# EAGLE library part 691411510010 (library WR-TBL Spring Clamp)
WR-TBL Serie 4115 - 5.08 mm Screwless Horizontal Entry KIND PROPERTIES Pitch 5.08 mm MATERIAL PROPERTIES Insulator Material PA66 Insulator Flammability Rating UL94 V-0 Contact Material INOX Steel Contact Type Stamped Wire Guard Material Copper Alloy GENERAL INFORMATION Operating Temperature -30 up to +120 °C Compliance ROHS & Reach ELECTRICAL PROPERTIES IR UL 10 A IR VDE 10 A Working Voltage [UL] 300 V (AC) Working Voltage [VDE] 250 V (AC) Withstanding Voltage [UL] 1600 V (AC) Withstanding Voltage [VDE] 2000 V (AC) Contact Resistance 20 mΩ Mechanical Properties Wire Strip Length 10 Wire Properties Solid Wire Section (AWG) 16 to 30 (AWG) Solid Wire Section (Metric) 1.31 to 0.0509 (mm²) Stranded Wire Section (AWG) 16 to 30 (AWG) Stranded Wire Section (Metric) 1.31 to 0.0509 (mm²) CERTIFICATION UL Approval E150931 VDE Approval 40021396 Packaging Properties Packaging Box <https://www.we-online.com/catalog/media/o32955v209%20Family_Con_TBL_Screwless_508_6914115100xx_pf2.jpg> Details see: https://www.we-online.com/catalog/en/TBL_5_08_4115_SCREWLESS_HORIZONTAL_ENTRY_6914115100xx/ Updated by Ella Wu 2019-12-31 2019(C) Wurth Elektronik
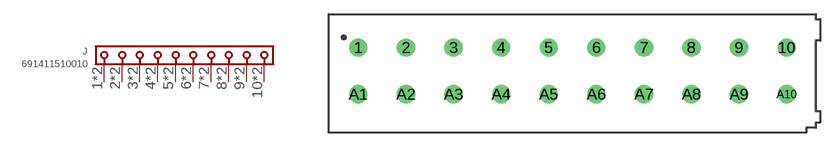
[diagram p77: symbol with the pads of 691411510010; footprint 691411510010]

Designator prefix J

## 691411510010 (DATASHEET-URL: https://www.we-online.com/redexpert/spec/691411510010?ae; IR-UL: 10A; IR-VDE: 10A; MOUNT: THT; PART-NUMBER: 691411510010; PINS: 10; PITCH: 5.08mm; TYPE: Horizontal; VALUE: 691411510010; WIRE: 16 to 30 (AWG) 1.31 to 0.0509 (mm²); WORKING-VOLTAGE-UL: 300V (AC); WORKING-VOLTAGE-VDE: 250V (AC))  [691411510010]
1  1  pas
2  2  pas
3  3  pas
4  4  pas
5  5  pas
6  6  pas
7  7  pas
8  8  pas
9  9  pas
10  10  pas
A1  1  pas
A2  2  pas
A3  3  pas
A4  4  pas
A5  5  pas
A6  6  pas
A7  7  pas
A8  8  pas
A9  9  pas
A10  10  pas

## Footprint 691411510010 (pad centres in mm)
WR-TBL Serie 4115 - 5.08 mm Screwless Horizontal Entry Max Height = 13.9mm , Pitch 5.08mm , 10pins
drill 1.3: 1 -22.86,2.5; 2 -17.78,2.5; 3 -12.7,2.5; 4 -7.62,2.5; 5 -2.54,2.5; 6 2.54,2.5; 7 7.62,2.5; 8 12.7,2.5; 9 17.78,2.5; 10 22.86,2.5; A1 -22.86,-2.5; A2 -17.78,-2.5; A3 -12.7,-2.5; A4 -7.62,-2.5; A5 -2.54,-2.5; A6 2.54,-2.5; A7 7.62,-2.5; A8 12.7,-2.5; A9 17.78,-2.5; A10 22.86,-2.5